# EAGLE library part ATTINY1614 (library DougsLab)
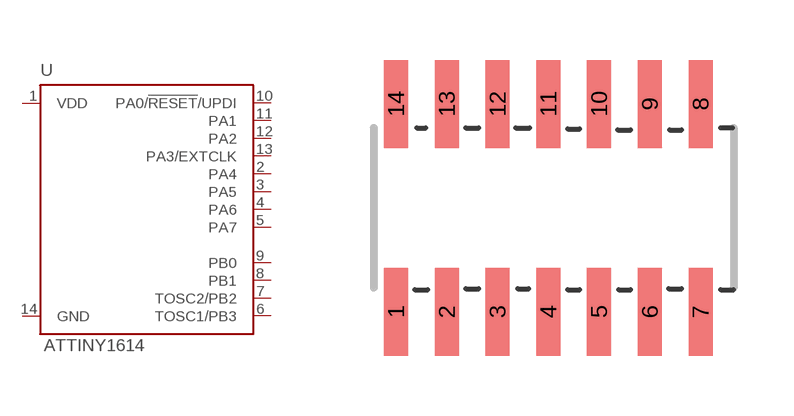
[diagram p0: symbol with the pads of SOIC14; footprint SOIC14]

Designator prefix U

## ATTINY1614  [SOIC14]
1  VDD  pwr
2  PA4
3  PA5
4  PA6
5  PA7
6  TOSC1/PB3
7  TOSC2/PB2
8  PB1
9  PB0
10  PA0/!RESET!/UPDI
11  PA1
12  PA2
13  PA3/EXTCLK
14  GND  pwr

## Footprint SOIC14 (pad centres in mm)
SMALL OUTLINE INTEGRATED CIRCUIT
smd 0.6 x 2.2: 1 -4.445,-2.6; 2 -3.175,-2.6; 3 -1.905,-2.6; 4 -0.635,-2.6; 5 0.635,-2.6; 6 1.905,-2.6; 7 3.175,-2.6; 8 3.175,2.6; 9 1.905,2.6; 10 0.635,2.6; 11 -0.635,2.6; 12 -1.905,2.6; 13 -3.175,2.6; 14 -4.445,2.6